# EAGLE library part 3433-6303 (library 3M_By_element14_Batch_1)
Receptacle
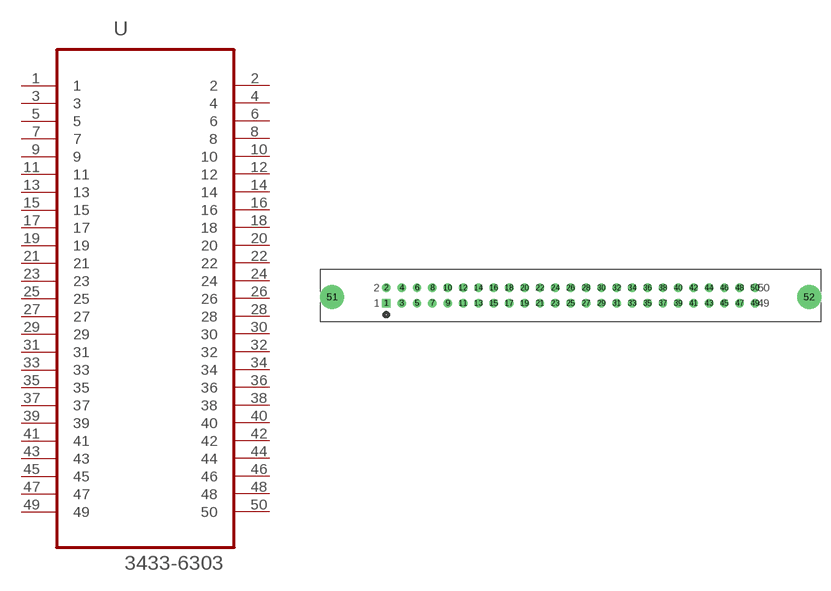
[diagram p54: symbol with the pads of 3M_3433-6303; footprint 3M_3433-6303]

Designator prefix U

## 3433-6303 (MPN: 3433-6303; OC_FARNELL: 1654506; OC_NEWARK: 46F8442; PACKAGE: Receptacles-50Pin; SUPPLIER: 3M)  [3M_3433-6303]
1  1  pas
2  2  pas
3  3  pas
4  4  pas
5  5  pas
6  6  pas
7  7  pas
8  8  pas
9  9  pas
10  10  pas
11  11  pas
12  12  pas
13  13  pas
14  14  pas
15  15  pas
16  16  pas
17  17  pas
18  18  pas
19  19  pas
20  20  pas
21  21  pas
22  22  pas
23  23  pas
24  24  pas
25  25  pas
26  26  pas
27  27  pas
28  28  pas
29  29  pas
30  30  pas
31  31  pas
32  32  pas
33  33  pas
34  34  pas
35  35  pas
36  36  pas
37  37  pas
38  38  pas
39  39  pas
40  40  pas
41  41  pas
42  42  pas
43  43  pas
44  44  pas
45  45  pas
46  46  pas
47  47  pas
48  48  pas
49  49  pas
50  50  pas

## Footprint 3M_3433-6303 (pad centres in mm)
drill 0.889 square: 1 -60.96,-2.54
drill 0.889: 2 -60.96,0; 3 -58.42,-2.54; 4 -58.42,0; 5 -55.88,-2.54; 6 -55.88,0; 7 -53.34,-2.54; 8 -53.34,0; 9 -50.8,-2.54; 10 -50.8,0; 11 -48.26,-2.54; 12 -48.26,0; 13 -45.72,-2.54; 14 -45.72,0; 15 -43.18,-2.54; 16 -43.18,0; 17 -40.64,-2.54; 18 -40.64,0; 19 -38.1,-2.54; 20 -38.1,0; 21 -35.56,-2.54; 22 -35.56,0; 23 -33.02,-2.54; 24 -33.02,0; 25 -30.48,-2.54; 26 -30.48,0; 27 -27.94,-2.54; 28 -27.94,0; 29 -25.4,-2.54; 30 -25.4,0; 31 -22.86,-2.54; 32 -22.86,0; 33 -20.32,-2.54; 34 -20.32,0; 35 -17.78,-2.54; 36 -17.78,0; 37 -15.24,-2.54; 38 -15.24,0; 39 -12.7,-2.54; 40 -12.7,0; 41 -10.16,-2.54; 42 -10.16,0; 43 -7.62,-2.54; 44 -7.62,0; 45 -5.08,-2.54; 46 -5.08,0; 47 -2.54,-2.54; 48 -2.54,0; 49 0,-2.54; 50 0,0
drill 2.946: 51 -69.901,-1.524; 52 8.941,-1.524